# Altium schematic symbol library USBULC6-2F3.SchLib: 1 symbol
Pins are listed as number, name and electrical type; pins without a type are passive.

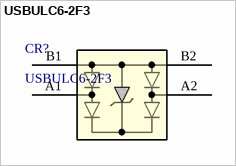
[diagram p0: symbol USBULC6-2F3]

## USBULC6-2F3
designator CR?
No Description Available; Manufacturer_Name: STMicroelectronics; Copyright: Copyright (C) 2025 Ultra Librarian. All rights reserved.; Manufacturer_Part_Number: USBULC6-2F3; RefDes: RefDes; Type: Type
footprint FLIPCHIP4_USBUL_STM
pins: A1, A2, B1, B2